# EAGLE library part 629104142721 (library Wurth_Elektronik_Electromechanic_Input-Output_Connectors_rev16a)
WR-COM USB SMT Type B Vertical,4 pins=>Code : Con_I-O_COM_USB-2.0_B_629104142721 <http://katalog.we-online.de/media/images/eican/Con_I-O_COM_USB-2.0_B_629104142721_pf2.jpg> Details see: http://katalog.we-online.de/en/em/629_104_142_721 Created 2014-07-09, Karrer Zheng 2014 (C) Würth Elektronik
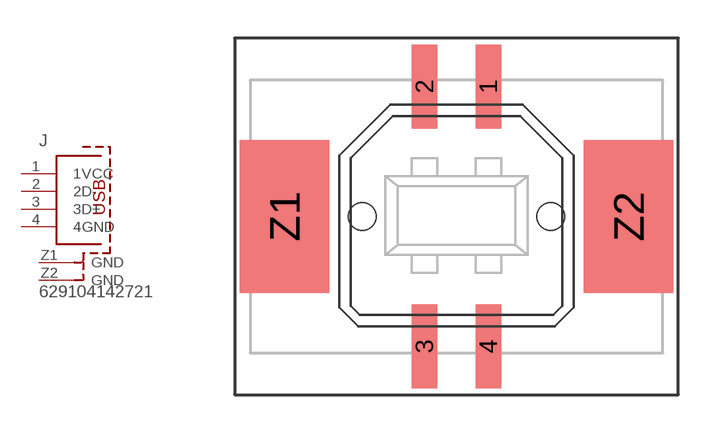
[diagram p69: symbol with the pads of 629104142721; footprint 629104142721]

Designator prefix J

## 629104142721  [629104142721]
1  1VCC
2  2D-
3  3D+
4  4GND
Z1  GND
Z2  GND

## Footprint 629104142721 (pad centres in mm)
WR-COM USB SMT Type B Vertical, 4 pins
smd 1 x 3.3: 1 1.25,5.1; 2 -1.25,5.1; 3 -1.25,-5.1; 4 1.25,-5.1
smd 3.5 x 6: Z1 -6.75,0; Z2 6.75,0
hole 1.1 at -3.7,0
hole 1.1 at 3.7,0